# EAGLE library part IRFS7530 (library PikiTech)
IRFS7530 HEXFET Power MOSFET ***UNTESTED***
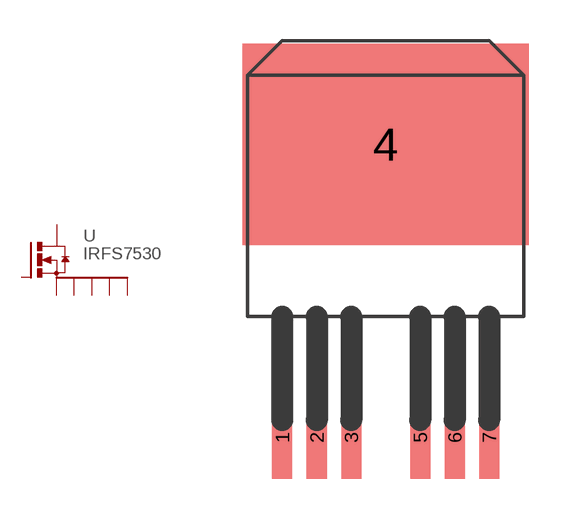
[diagram p9: symbol with the pads of TO-263-7; footprint TO-263-7]

Designator prefix -

## IRFS7530  [TO-263-7]
1  G  in
2  S1  out
3  S2  out
4  D  in
5  S3  out
6  S4  out
7  S  out

## Footprint TO-263-7 (pad centres in mm)
smd 0.737 x 3.048: 1 -3.81,-6.985; 2 -2.54,-6.985; 3 -1.27,-6.985; 5 1.27,-6.985; 6 2.54,-6.985; 7 3.81,-6.985
smd 10.541 x 7.417: 4 0,3.81